# Altium schematic symbol library XT30UPB-M.SchLib: 1 symbol
Pins are listed as number, name and electrical type; pins without a type are passive.

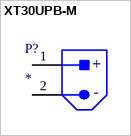
[diagram p0: symbol XT30UPB-M]

## XT30UPB-M
designator P?
Value: *
pins: 1, 2
text: +; -